# Altium footprint library Power and Battery Management.PcbLib: 171 footprints (part 2 of 11)
Each footprint in its own frame and in the unit in brackets; x right, y up, seen from the top. Pads: shape width x height; smd on the part's side, far side on the other; paste and mask are expansions set on the pad; w line width, h text height; cw(c..) or ccw(c..) is an arc to the next point about the centre after c.
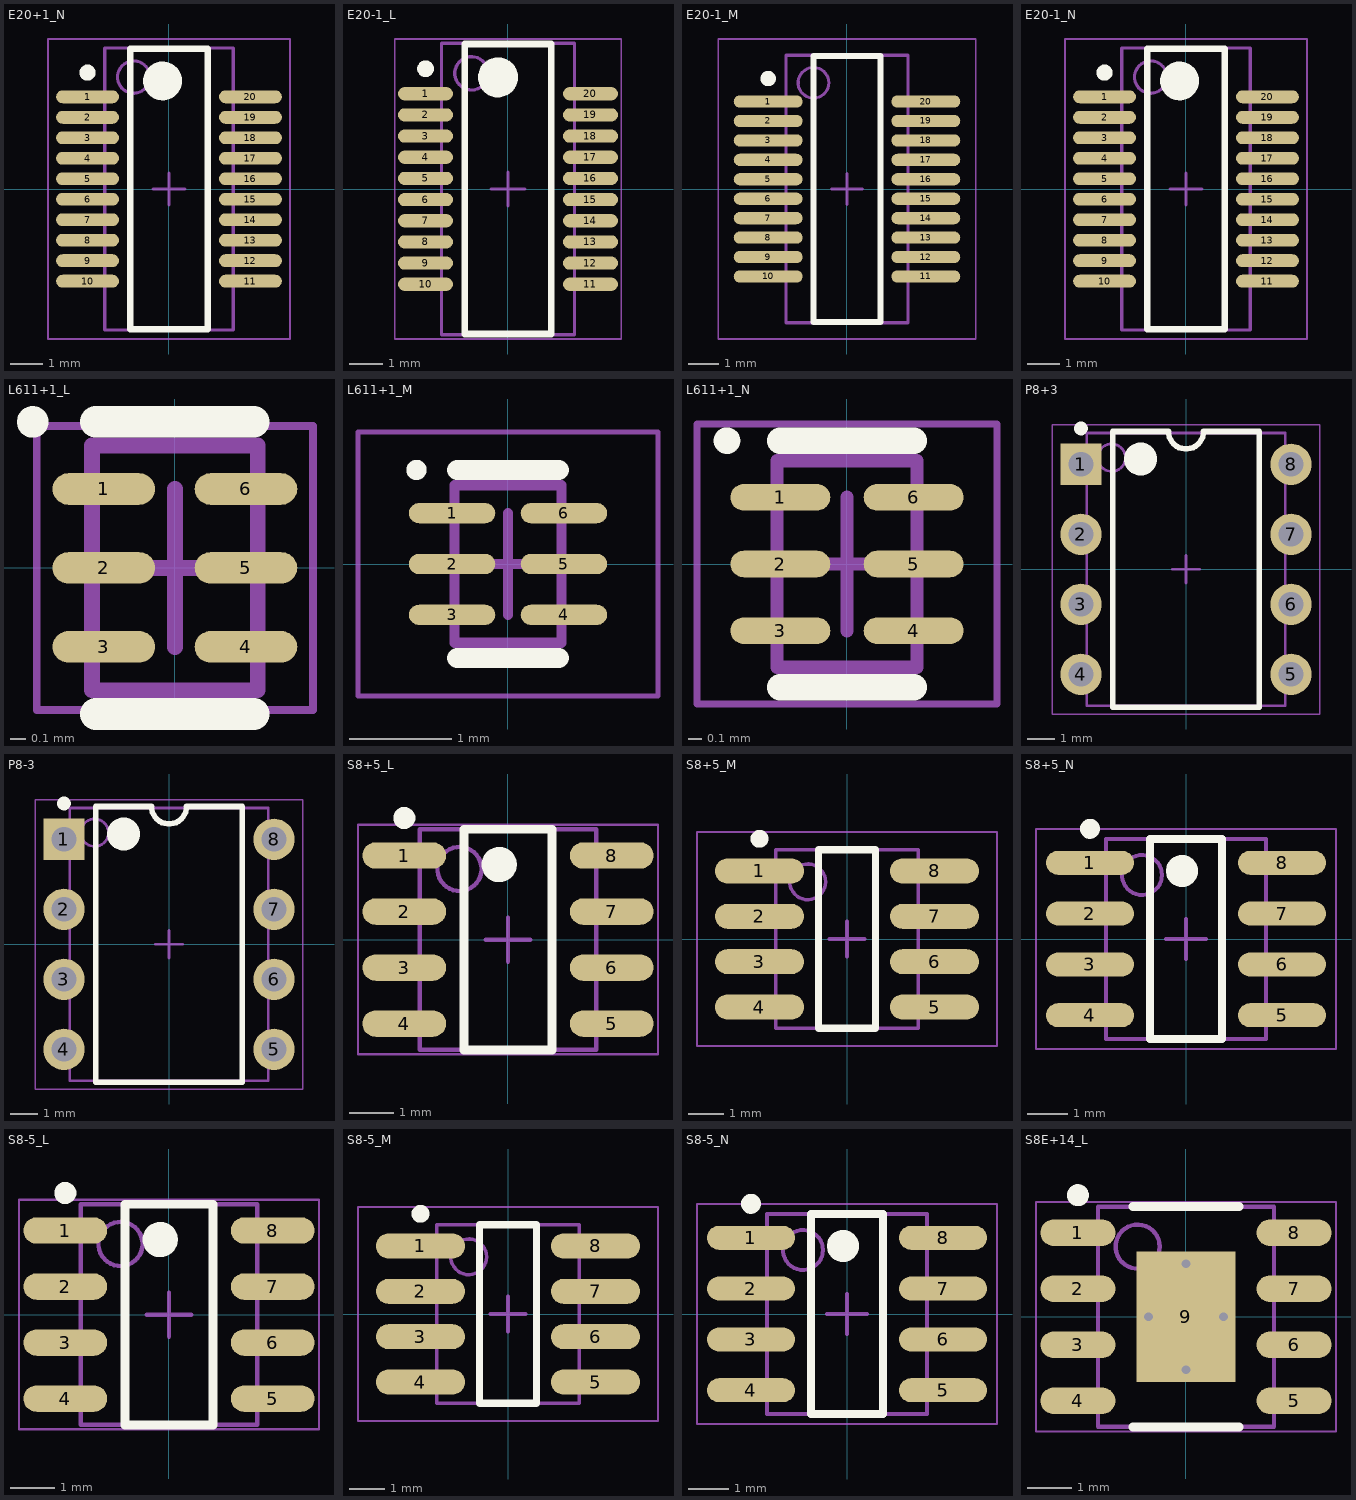
[diagram p1: the footprints below, top view; thin cyan lines are the x and y axes]

## E20+1_N [mm] "SOP, 20-Leads, Body 8.6x3.9mm, Pitch 0.635mm, IPC Medium Density"
height 1.76
pads (20):
  oval 1.95x0.4 smd: 1(-2.525,2.857) 2(-2.525,2.222) 3(-2.525,1.587) 4(-2.525,0.953) 5(-2.525,0.318) 6(-2.525,-0.318) 7(-2.525,-0.953) 8(-2.525,-1.587) 9(-2.525,-2.222) 10(-2.525,-2.857) 11(2.525,-2.857) 12(2.525,-2.222) 13(2.525,-1.587) 14(2.525,-0.953) 15(2.525,-0.318) 16(2.525,0.318) 17(2.525,0.953) 18(2.525,1.587) 19(2.525,2.222) 20(2.525,2.857)
Top Overlay:
  circle w0.6: c-0.2,3.35 r0.3
  circle w0.25: c-2.525,3.608 r0.125
  lines w0.2: -1.2,-4.35 1.2,-4.35 1.2,4.35 -1.2,4.35 -1.2,-4.35
Mechanical 13:
  circle w0.1: c-1.095,3.47 r0.5
  lines w0.1: -1.995,-4.37 1.995,-4.37 1.995,4.37 -1.995,4.37 -1.995,-4.37
Mechanical 15:
  lines w0.05: -3.75,-4.65 3.75,-4.65 3.75,4.65 -3.75,4.65 -3.75,-4.65
  lines w0.1: -0.5,0 0.5,0 ; 0,-0.5 0,0.5
3D body: height 1.76, standoff 0.1, extent -1.995,-4.37 1.995,4.37

## E20-1_L [mm] "SOP, 20-Leads, Body 8.6x3.9mm, Pitch 0.635mm, IPC High Density"
height 1.76
pads (20):
  oval 1.65x0.4 smd: 1(-2.475,2.857) 2(-2.475,2.222) 3(-2.475,1.587) 4(-2.475,0.953) 5(-2.475,0.318) 6(-2.475,-0.318) 7(-2.475,-0.953) 8(-2.475,-1.587) 9(-2.475,-2.222) 10(-2.475,-2.857) 11(2.475,-2.857) 12(2.475,-2.222) 13(2.475,-1.587) 14(2.475,-0.953) 15(2.475,-0.318) 16(2.475,0.318) 17(2.475,0.953) 18(2.475,1.587) 19(2.475,2.222) 20(2.475,2.857)
Top Overlay:
  circle w0.25: c-2.475,3.608 r0.125
  circle w0.6: c-0.3,3.35 r0.3
  lines w0.2: -1.3,-4.35 -1.3,4.35 1.3,4.35 1.3,-4.35 -1.3,-4.35
Mechanical 13:
  circle w0.1: c-1.095,3.47 r0.5
  lines w0.1: -1.995,-4.37 -1.995,4.37 1.995,4.37 1.995,-4.37 -1.995,-4.37
Mechanical 15:
  lines w0.05: -3.4,-4.5 -3.4,4.5 3.4,4.5 3.4,-4.5 -3.4,-4.5
  lines w0.1: -0.5,0 0.5,0 ; 0,-0.5 0,0.5
3D body: height 1.76, standoff 0.1, extent -1.995,-4.37 1.995,4.37

## E20-1_M [mm] "SOP, 20-Leads, Body 8.6x3.9mm, Pitch 0.635mm, IPC Low Density"
height 1.76
pads (20):
  oval 2.25x0.4 smd: 1(-2.575,2.857) 2(-2.575,2.222) 3(-2.575,1.587) 4(-2.575,0.953) 5(-2.575,0.318) 6(-2.575,-0.318) 7(-2.575,-0.953) 8(-2.575,-1.587) 9(-2.575,-2.222) 10(-2.575,-2.857) 11(2.575,-2.857) 12(2.575,-2.222) 13(2.575,-1.587) 14(2.575,-0.953) 15(2.575,-0.318) 16(2.575,0.318) 17(2.575,0.953) 18(2.575,1.587) 19(2.575,2.222) 20(2.575,2.857)
Top Overlay:
  circle w0.25: c-2.575,3.608 r0.125
  lines w0.2: -1.1,-4.35 1.1,-4.35 1.1,4.35 -1.1,4.35 -1.1,-4.35
Mechanical 13:
  circle w0.1: c-1.095,3.47 r0.5
  lines w0.1: -1.995,-4.37 1.995,-4.37 1.995,4.37 -1.995,4.37 -1.995,-4.37
Mechanical 15:
  lines w0.05: -4.2,-4.9 4.2,-4.9 4.2,4.9 -4.2,4.9 -4.2,-4.9
  lines w0.1: -0.5,0 0.5,0 ; 0,-0.5 0,0.5
3D body: height 1.76, standoff 0.1, extent -1.995,-4.37 1.995,4.37

## E20-1_N [mm] "SOP, 20-Leads, Body 8.6x3.9mm, Pitch 0.635mm, IPC Medium Density"
height 1.76
pads (20):
  oval 1.95x0.4 smd: 1(-2.525,2.857) 2(-2.525,2.222) 3(-2.525,1.587) 4(-2.525,0.953) 5(-2.525,0.318) 6(-2.525,-0.318) 7(-2.525,-0.953) 8(-2.525,-1.587) 9(-2.525,-2.222) 10(-2.525,-2.857) 11(2.525,-2.857) 12(2.525,-2.222) 13(2.525,-1.587) 14(2.525,-0.953) 15(2.525,-0.318) 16(2.525,0.318) 17(2.525,0.953) 18(2.525,1.587) 19(2.525,2.222) 20(2.525,2.857)
Top Overlay:
  circle w0.6: c-0.2,3.35 r0.3
  circle w0.25: c-2.525,3.608 r0.125
  lines w0.2: -1.2,-4.35 1.2,-4.35 1.2,4.35 -1.2,4.35 -1.2,-4.35
Mechanical 13:
  circle w0.1: c-1.095,3.47 r0.5
  lines w0.1: -1.995,-4.37 1.995,-4.37 1.995,4.37 -1.995,4.37 -1.995,-4.37
Mechanical 15:
  lines w0.05: -3.75,-4.65 3.75,-4.65 3.75,4.65 -3.75,4.65 -3.75,-4.65
  lines w0.1: -0.5,0 0.5,0 ; 0,-0.5 0,0.5
3D body: height 1.76, standoff 0.1, extent -1.995,-4.37 1.995,4.37

## L611+1_L [mm] "SON, 6-Leads, Body 1.5x1mm, Pitch 0.5mm, IPC High Density"
height 0.8
pads (6):
  oval 0.65x0.2 smd: 1(-0.45,0.5) 2(-0.45,0) 3(-0.45,-0.5) 4(0.45,-0.5) 5(0.45,0) 6(0.45,0.5)
Top Overlay:
  circle w0.1: c-0.9,0.925 r0.05
  lines w0.2: -0.5,-0.925 0.5,-0.925 ; -0.5,0.925 0.5,0.925
Mechanical 13:
  lines w0.1: -0.525,-0.775 -0.525,0.775 0.525,0.775 0.525,-0.775 -0.525,-0.775
Mechanical 15:
  lines w0.05: -0.875,-0.9 -0.875,0.9 0.875,0.9 0.875,-0.9 -0.875,-0.9
  lines w0.1: -0.5,0 0.5,0 ; 0,-0.5 0,0.5
3D body: height 0.8, standoff 0, extent -0.525,-0.775 0.525,0.775

## L611+1_M [mm] "SON, 6-Leads, Body 1.5x1mm, Pitch 0.5mm, IPC Low Density"
height 0.8
pads (6):
  oval 0.85x0.2 smd: 1(-0.55,0.5) 2(-0.55,0) 3(-0.55,-0.5) 4(0.55,-0.5) 5(0.55,0) 6(0.55,0.5)
Top Overlay:
  circle w0.1: c-0.9,0.925 r0.05
  lines w0.2: -0.5,-0.925 0.5,-0.925 ; -0.5,0.925 0.5,0.925
Mechanical 13:
  lines w0.1: -0.525,-0.775 -0.525,0.775 0.525,0.775 0.525,-0.775 -0.525,-0.775
Mechanical 15:
  lines w0.05: -1.475,-1.3 -1.475,1.3 1.475,1.3 1.475,-1.3 -1.475,-1.3
  lines w0.1: -0.5,0 0.5,0 ; 0,-0.5 0,0.5
3D body: height 0.8, standoff 0, extent -0.525,-0.775 0.525,0.775

## L611+1_N [mm] "SON, 6-Leads, Body 1.5x1mm, Pitch 0.5mm, IPC Medium Density"
height 0.8
pads (6):
  oval 0.75x0.2 smd: 1(-0.5,0.5) 2(-0.5,0) 3(-0.5,-0.5) 4(0.5,-0.5) 5(0.5,0) 6(0.5,0.5)
Top Overlay:
  circle w0.1: c-0.9,0.925 r0.05
  lines w0.2: -0.5,-0.925 0.5,-0.925 ; -0.5,0.925 0.5,0.925
Mechanical 13:
  lines w0.1: -0.525,-0.775 0.525,-0.775 0.525,0.775 -0.525,0.775 -0.525,-0.775
Mechanical 15:
  lines w0.05: -1.125,-1.05 1.125,-1.05 1.125,1.05 -1.125,1.05 -1.125,-1.05
  lines w0.1: -0.5,0 0.5,0 ; 0,-0.5 0,0.5
3D body: height 0.8, standoff 0, extent -0.525,-0.775 0.525,0.775

## P8+3 [mm] "DIP, 8-Leads, Row Spacing 7.62mm, Pitch 2.54mm, Body 9.4x7mm"
height 4.58
pads (8):
  rect 1.5x1.5 hole 0.9: 1(-3.81,3.81)
  round 1.5 hole 0.9: 2(-3.81,1.27) 3(-3.81,-1.27) 4(-3.81,-3.81) 5(3.81,-3.81) 6(3.81,-1.27) 7(3.81,1.27) 8(3.81,3.81)
Top Overlay:
  circle w0.6: c-1.65,4 r0.3
  circle w0.25: c-3.81,5.11 r0.125
  lines w0.2: -2.65,-5 2.65,-5 2.65,5 0.635,5 cw(c0,5) -0.635,5 -2.65,5 -2.65,-5
Mechanical 13:
  circle w0.1: c-2.7,4.05 r0.5
  lines w0.1: -3.6,-4.95 3.6,-4.95 3.6,4.95 -3.6,4.95 -3.6,-4.95
Mechanical 15:
  lines w0.05: -4.85,-5.25 4.85,-5.25 4.85,5.25 -4.85,5.25 -4.85,-5.25
  lines w0.1: -0.5,0 0.5,0 ; 0,-0.5 0,0.5
3D body: height 4.58, standoff 0.38, extent -3.6,-4.95 3.6,4.95

## P8-3 [mm] "DIP, 8-Leads, Row Spacing 7.62mm, Pitch 2.54mm, Body 9.4x7mm"
height 4.58
pads (8):
  rect 1.5x1.5 hole 0.9: 1(-3.81,3.81)
  round 1.5 hole 0.9: 2(-3.81,1.27) 3(-3.81,-1.27) 4(-3.81,-3.81) 5(3.81,-3.81) 6(3.81,-1.27) 7(3.81,1.27) 8(3.81,3.81)
Top Overlay:
  circle w0.25: c-3.81,5.11 r0.125
  circle w0.6: c-1.65,4 r0.3
  lines w0.2: -2.65,-5 -2.65,5 -0.635,5 ccw(c0,5) 0.635,5 2.65,5 2.65,-5 -2.65,-5
Mechanical 13:
  circle w0.1: c-2.7,4.05 r0.5
  lines w0.1: -3.6,-4.95 -3.6,4.95 3.6,4.95 3.6,-4.95 -3.6,-4.95
Mechanical 15:
  lines w0.05: -4.85,-5.25 -4.85,5.25 4.85,5.25 4.85,-5.25 -4.85,-5.25
  lines w0.1: -0.5,0 0.5,0 ; 0,-0.5 0,0.5
3D body: height 4.58, standoff 0.38, extent -3.6,-4.95 3.6,4.95

## S8+5_L [mm] "SOIC, 8-Leads, Body 4.9x3.9mm, Pitch 1.27mm, IPC High Density"
height 1.75
pads (8):
  oval 1.9x0.6 smd: 1(-2.35,1.905) 2(-2.35,0.635) 3(-2.35,-0.635) 4(-2.35,-1.905) 5(2.35,-1.905) 6(2.35,-0.635) 7(2.35,0.635) 8(2.35,1.905)
Top Overlay:
  circle w0.25: c-2.35,2.755 r0.125
  circle w0.4: c-0.2,1.7 r0.2
  lines w0.2: -1,-2.5 -1,2.5 1,2.5 1,-2.5 -1,-2.5
Mechanical 13:
  circle w0.1: c-1.1,1.6 r0.5
  lines w0.1: -2,-2.5 -2,2.5 2,2.5 2,-2.5 -2,-2.5
Mechanical 15:
  lines w0.05: -3.4,-2.6 -3.4,2.6 3.4,2.6 3.4,-2.6 -3.4,-2.6
  lines w0.1: -0.5,0 0.5,0 ; 0,-0.5 0,0.5
3D body: height 1.75, standoff 0.1, extent -2,-2.5 2,2.5

## S8+5_M [mm] "SOIC, 8-Leads, Body 4.9x3.9mm, Pitch 1.27mm, IPC Low Density"
height 1.75
pads (8):
  oval 2.5x0.7 smd: 1(-2.45,1.905) 2(-2.45,0.635) 3(-2.45,-0.635) 4(-2.45,-1.905) 5(2.45,-1.905) 6(2.45,-0.635) 7(2.45,0.635) 8(2.45,1.905)
Top Overlay:
  circle w0.25: c-2.45,2.805 r0.125
  lines w0.2: -0.8,-2.5 0.8,-2.5 0.8,2.5 -0.8,2.5 -0.8,-2.5
Mechanical 13:
  circle w0.1: c-1.1,1.6 r0.5
  lines w0.1: -2,-2.5 2,-2.5 2,2.5 -2,2.5 -2,-2.5
Mechanical 15:
  lines w0.05: -4.2,-3 4.2,-3 4.2,3 -4.2,3 -4.2,-3
  lines w0.1: -0.5,0 0.5,0 ; 0,-0.5 0,0.5
3D body: height 1.75, standoff 0.1, extent -2,-2.5 2,2.5

## S8+5_N [mm] "SOIC, 8-Leads, Body 4.9x3.9mm, Pitch 1.27mm, IPC Medium Density"
height 1.75
pads (8):
  oval 2.2x0.6 smd: 1(-2.4,1.905) 2(-2.4,0.635) 3(-2.4,-0.635) 4(-2.4,-1.905) 5(2.4,-1.905) 6(2.4,-0.635) 7(2.4,0.635) 8(2.4,1.905)
Top Overlay:
  circle w0.25: c-2.4,2.755 r0.125
  circle w0.4: c-0.1,1.7 r0.2
  lines w0.2: -0.9,-2.5 -0.9,2.5 0.9,2.5 0.9,-2.5 -0.9,-2.5
Mechanical 13:
  circle w0.1: c-1.1,1.6 r0.5
  lines w0.1: -2,-2.5 -2,2.5 2,2.5 2,-2.5 -2,-2.5
Mechanical 15:
  lines w0.05: -3.75,-2.75 -3.75,2.75 3.75,2.75 3.75,-2.75 -3.75,-2.75
  lines w0.1: -0.5,0 0.5,0 ; 0,-0.5 0,0.5
3D body: height 1.75, standoff 0.1, extent -2,-2.5 2,2.5

## S8-5_L [mm] "SOIC, 8-Leads, Body 4.9x3.9mm, Pitch 1.27mm, IPC High Density"
height 1.75
pads (8):
  oval 1.9x0.6 smd: 1(-2.35,1.905) 2(-2.35,0.635) 3(-2.35,-0.635) 4(-2.35,-1.905) 5(2.35,-1.905) 6(2.35,-0.635) 7(2.35,0.635) 8(2.35,1.905)
Top Overlay:
  circle w0.25: c-2.35,2.755 r0.125
  circle w0.4: c-0.2,1.7 r0.2
  lines w0.2: -1,-2.5 -1,2.5 1,2.5 1,-2.5 -1,-2.5
Mechanical 13:
  circle w0.1: c-1.1,1.6 r0.5
  lines w0.1: -2,-2.5 -2,2.5 2,2.5 2,-2.5 -2,-2.5
Mechanical 15:
  lines w0.05: -3.4,-2.6 -3.4,2.6 3.4,2.6 3.4,-2.6 -3.4,-2.6
  lines w0.1: -0.5,0 0.5,0 ; 0,-0.5 0,0.5
3D body: height 1.75, standoff 0.1, extent -2,-2.5 2,2.5

## S8-5_M [mm] "SOIC, 8-Leads, Body 4.9x3.9mm, Pitch 1.27mm, IPC Low Density"
height 1.75
pads (8):
  oval 2.5x0.7 smd: 1(-2.45,1.905) 2(-2.45,0.635) 3(-2.45,-0.635) 4(-2.45,-1.905) 5(2.45,-1.905) 6(2.45,-0.635) 7(2.45,0.635) 8(2.45,1.905)
Top Overlay:
  circle w0.25: c-2.45,2.805 r0.125
  lines w0.2: -0.8,-2.5 0.8,-2.5 0.8,2.5 -0.8,2.5 -0.8,-2.5
Mechanical 13:
  circle w0.1: c-1.1,1.6 r0.5
  lines w0.1: -2,-2.5 2,-2.5 2,2.5 -2,2.5 -2,-2.5
Mechanical 15:
  lines w0.05: -4.2,-3 4.2,-3 4.2,3 -4.2,3 -4.2,-3
  lines w0.1: -0.5,0 0.5,0 ; 0,-0.5 0,0.5
3D body: height 1.75, standoff 0.1, extent -2,-2.5 2,2.5

## S8-5_N [mm] "SOIC, 8-Leads, Body 4.9x3.9mm, Pitch 1.27mm, IPC Medium Density"
height 1.75
pads (8):
  oval 2.2x0.6 smd: 1(-2.4,1.905) 2(-2.4,0.635) 3(-2.4,-0.635) 4(-2.4,-1.905) 5(2.4,-1.905) 6(2.4,-0.635) 7(2.4,0.635) 8(2.4,1.905)
Top Overlay:
  circle w0.25: c-2.4,2.755 r0.125
  circle w0.4: c-0.1,1.7 r0.2
  lines w0.2: -0.9,-2.5 -0.9,2.5 0.9,2.5 0.9,-2.5 -0.9,-2.5
Mechanical 13:
  circle w0.1: c-1.1,1.6 r0.5
  lines w0.1: -2,-2.5 -2,2.5 2,2.5 2,-2.5 -2,-2.5
Mechanical 15:
  lines w0.05: -3.75,-2.75 -3.75,2.75 3.75,2.75 3.75,-2.75 -3.75,-2.75
  lines w0.1: -0.5,0 0.5,0 ; 0,-0.5 0,0.5
3D body: height 1.75, standoff 0.1, extent -2,-2.5 2,2.5

## S8E+14_L [mm] "SOIC, 8-Leads, Body 4.9x3.9mm, Pitch 1.27mm, Thermal Pad, IPC High Density"
height 1.68
pads (9):
  oval 1.7x0.6 smd: 1(-2.45,1.905) 2(-2.45,0.635) 3(-2.45,-0.635) 4(-2.45,-1.905) 5(2.45,-1.905) 6(2.45,-0.635) 7(2.45,0.635) 8(2.45,1.905)
  rect 2.25x2.95 smd: 9(0,0)
via 0,1.2 diameter 0.5 hole 0.2
via 0,-1.2 diameter 0.5 hole 0.2
via 0.85,0 diameter 0.5 hole 0.2
via -0.85,0 diameter 0.5 hole 0.2
Top Overlay:
  circle w0.25: c-2.45,2.755 r0.125
  lines w0.2: -1.2,-2.5 1.2,-2.5 ; -1.2,2.5 1.2,2.5
Mechanical 13:
  circle w0.1: c-1.095,1.59 r0.5
  lines w0.1: -1.995,-2.49 1.995,-2.49 1.995,2.49 -1.995,2.49 -1.995,-2.49
Mechanical 15:
  lines w0.05: -3.4,-2.6 3.4,-2.6 3.4,2.6 -3.4,2.6 -3.4,-2.6
  lines w0.1: -0.5,0 0.5,0 ; 0,-0.5 0,0.5
3D body: height 1.68, standoff 0, extent -1.995,-2.49 1.995,2.49